# EAGLE library part SWITCH-SLIDE-SMD4PIN-CUS22B (library LITTLEBITS140915)
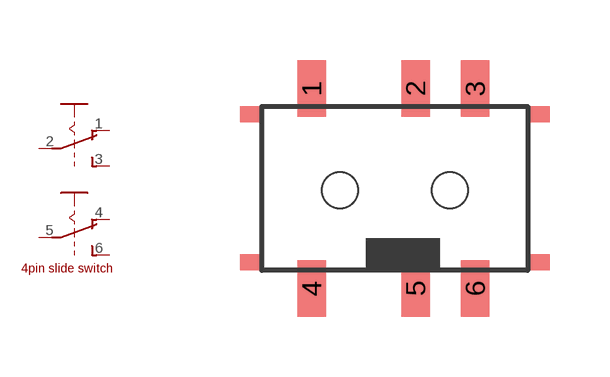
[diagram p1: symbol with the pads of SWITCH-SLIDE-SMD4PIN-CUS22B; footprint SWITCH-SLIDE-SMD4PIN-CUS22B]

Designator prefix -

## SWITCH-SLIDE-SMD4PIN-CUS22B  [SWITCH-SLIDE-SMD4PIN-CUS22B]
1  1  pas
2  2  pas
3  3  pas
4  4  pas
5  5  pas
6  6  pas

## Footprint SWITCH-SLIDE-SMD4PIN-CUS22B (pad centres in mm)
smd 0.711 x 1.422: 1 1.3,4.55; 2 3.9,4.55; 3 5.392,4.549; 4 1.3,-0.45; 5 3.9,-0.45; 6 5.392,-0.451
hole 0.9 at 2,2
hole 0.9 at 4.75,2